# Altium footprint library b6b_jst.PcbLib: 1 footprints
Each footprint in its own frame and in the unit in brackets; x right, y up, seen from the top. Pads: shape width x height; smd on the part's side, far side on the other; paste and mask are expansions set on the pad; w line width, h text height; cw(c..) or ccw(c..) is an arc to the next point about the centre after c.
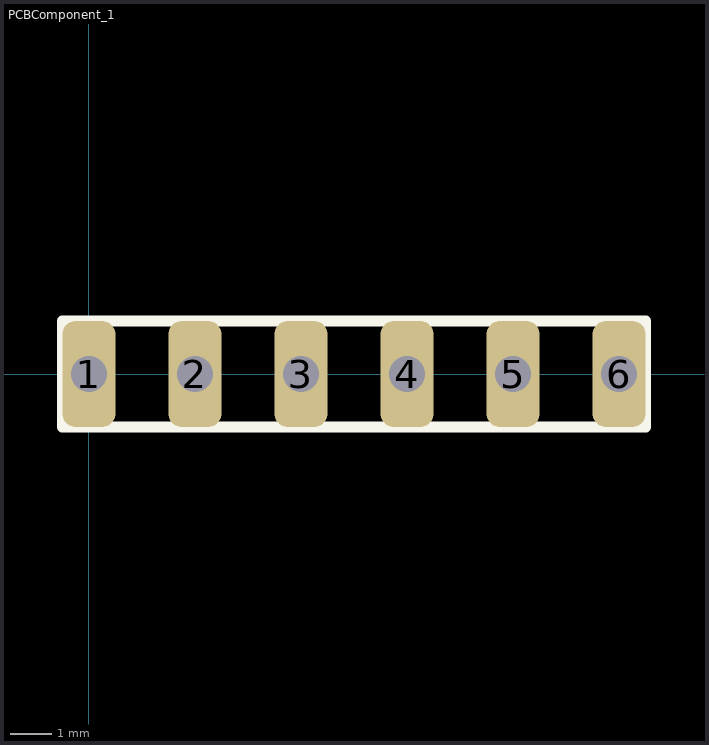
[diagram p0: the footprint, top view; thin cyan lines are the x and y axes]

## PCBComponent_1 [mm]
pads (6):
  rrect50% 1.27x2.54 hole 0.86: 1(0,0) 2(2.54,0) 3(5.08,0) 4(7.62,0) 5(10.16,0) 6(12.7,0)
Top Overlay:
  lines w0.254: -0.635,-1.27 13.335,-1.27 13.335,1.27 -0.635,1.27 -0.635,-1.27
3D body: height 2.54, standoff 0, extent -0.635,-1.27 13.335,1.27